# Altium schematic symbol library GENERIC_R_PTC.SchLib: 1 symbol
Pins are listed as number, name and electrical type; pins without a type are passive.

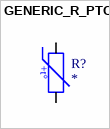
[diagram p0: symbol GENERIC_R_PTC]

## GENERIC_R_PTC
designator R?
pins: 1, 2
text: +t°